# Altium footprint library MOD-SPE-MRF89.PcbLib: 1 footprints
Each footprint in its own frame and in the unit in brackets; x right, y up, seen from the top. Pads: shape width x height; smd on the part's side, far side on the other; paste and mask are expansions set on the pad; w line width, h text height; cw(c..) or ccw(c..) is an arc to the next point about the centre after c.
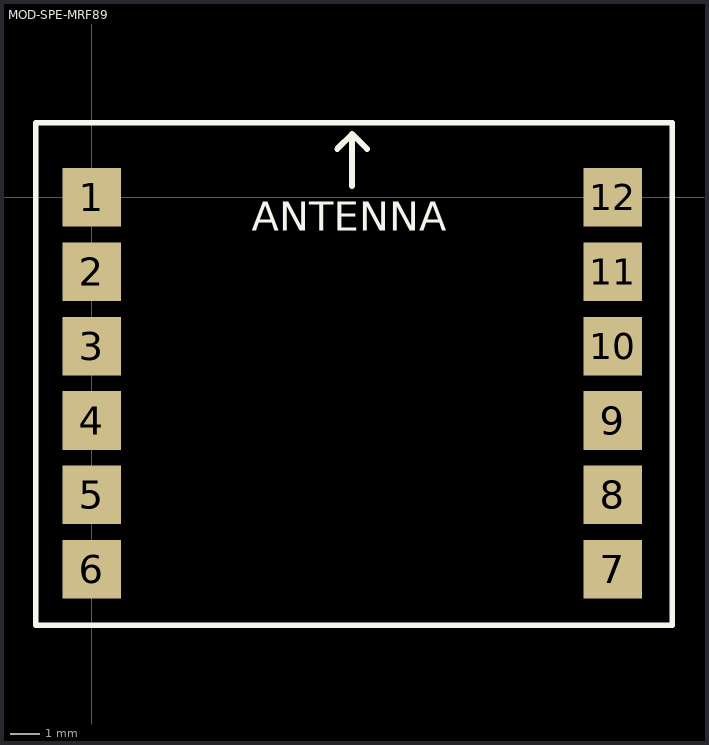
[diagram p0: the footprint, top view; thin cyan lines are the x and y axes]

## MOD-SPE-MRF89 [mm]
pads (12):
  rect 2x2 smd: 1(0,0) 2(0,-2.54) 3(0,-5.08) 4(0,-7.62) 5(0,-10.16) 6(0,-12.7) 7(17.78,-12.7) 8(17.78,-10.16) 9(17.78,-7.62) 10(17.78,-5.08) 11(17.78,-2.54) 12(17.78,0)
Top Overlay:
  lines w0.2: 8.382,1.651 8.89,2.159 ; 8.89,0.381 8.89,2.159 ; 9.398,1.651 8.89,2.159 ; -1.905,-14.605 19.812,-14.605 19.812,2.54 -1.905,2.54 -1.905,-14.605
  text "ANTENNA" at 5.461,-1.143 h1
3D body: height 1.59, standoff 0, extent -0.254,-14.224 17.526,13.676